# EAGLE library part LTC2208 (library lstolcman_thesis)
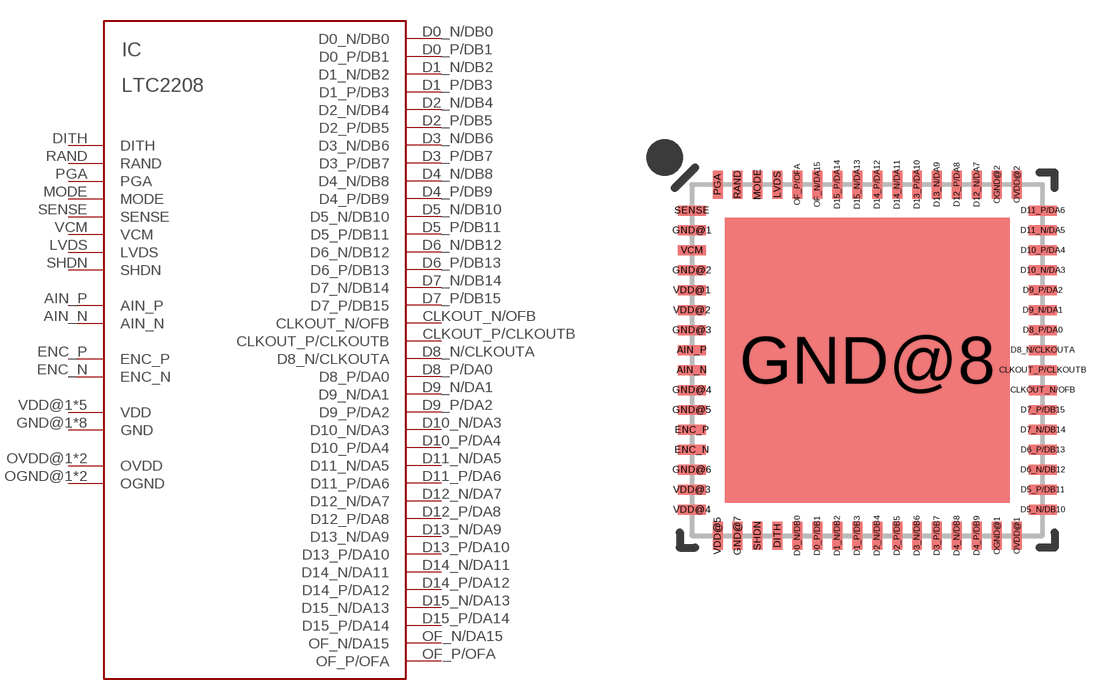
[diagram p1: symbol with the pads of QFN64; footprint QFN64]

Designator prefix IC

## LTC2208  [QFN64]
AIN_N  AIN_N
AIN_P  AIN_P
CLKOUT_N/OFB  CLKOUT_N/OFB
CLKOUT_P/CLKOUTB  CLKOUT_P/CLKOUTB
D0_N/DB0  D0_N/DB0
D0_P/DB1  D0_P/DB1
D1_N/DB2  D1_N/DB2
D1_P/DB3  D1_P/DB3
D2_N/DB4  D2_N/DB4
D2_P/DB5  D2_P/DB5
D3_N/DB6  D3_N/DB6
D3_P/DB7  D3_P/DB7
D4_N/DB8  D4_N/DB8
D4_P/DB9  D4_P/DB9
D5_N/DB10  D5_N/DB10
D5_P/DB11  D5_P/DB11
D6_N/DB12  D6_N/DB12
D6_P/DB13  D6_P/DB13
D7_N/DB14  D7_N/DB14
D7_P/DB15  D7_P/DB15
D8_N/CLKOUTA  D8_N/CLKOUTA
D8_P/DA0  D8_P/DA0
D9_N/DA1  D9_N/DA1
D9_P/DA2  D9_P/DA2
D10_N/DA3  D10_N/DA3
D10_P/DA4  D10_P/DA4
D11_N/DA5  D11_N/DA5
D11_P/DA6  D11_P/DA6
D12_N/DA7  D12_N/DA7
D12_P/DA8  D12_P/DA8
D13_N/DA9  D13_N/DA9
D13_P/DA10  D13_P/DA10
D14_N/DA11  D14_N/DA11
D14_P/DA12  D14_P/DA12
D15_N/DA13  D15_N/DA13
D15_P/DA14  D15_P/DA14
DITH  DITH
ENC_N  ENC_N
ENC_P  ENC_P
GND@1  GND  pwr
GND@2  GND  pwr
GND@3  GND  pwr
GND@4  GND  pwr
GND@5  GND  pwr
GND@6  GND  pwr
GND@7  GND  pwr
GND@8  GND  pwr
LVDS  LVDS
MODE  MODE
OF_N/DA15  OF_N/DA15
OF_P/OFA  OF_P/OFA
OGND@1  OGND  pwr
OGND@2  OGND  pwr
OVDD@1  OVDD  pwr
OVDD@2  OVDD  pwr
PGA  PGA
RAND  RAND
SENSE  SENSE
SHDN  SHDN
VCM  VCM  pwr
VDD@1  VDD  pwr
VDD@2  VDD  pwr
VDD@3  VDD  pwr
VDD@4  VDD  pwr
VDD@5  VDD  pwr

## Footprint QFN64 (pad centres in mm)
UP Package 64-Lead Plastic QFN (9mm × 9mm) (Reference LTC DWG # 05-08-1705 Rev C) http://www.linear.com/docs/38765
smd 0.7 x 0.25: AIN_N -4.4,-0.25; AIN_P -4.4,0.25; CLKOUT_N/OFB 4.4,-0.75; CLKOUT_P/CLKOUTB 4.4,-0.25; D5_N/DB10 4.4,-3.75; D5_P/DB11 4.4,-3.25; D6_N/DB12 4.4,-2.75; D6_P/DB13 4.4,-2.25; D7_N/DB14 4.4,-1.75; D7_P/DB15 4.4,-1.25; D8_N/CLKOUTA 4.4,0.25; D8_P/DA0 4.4,0.75; D9_N/DA1 4.4,1.25; D9_P/DA2 4.4,1.75; D10_N/DA3 4.4,2.25; D10_P/DA4 4.4,2.75; D11_N/DA5 4.4,3.25; D11_P/DA6 4.4,3.75; ENC_N -4.4,-2.25; ENC_P -4.4,-1.75; GND@1 -4.4,3.25; GND@2 -4.4,2.25; GND@3 -4.4,0.75; GND@4 -4.4,-0.75; GND@5 -4.4,-1.25; GND@6 -4.4,-2.75; SENSE -4.4,3.75; VCM -4.4,2.75; VDD@1 -4.4,1.75; VDD@2 -4.4,1.25; VDD@3 -4.4,-3.25; VDD@4 -4.4,-3.75
smd 0.25 x 0.7: D0_N/DB0 -1.75,-4.4; D0_P/DB1 -1.25,-4.4; D1_N/DB2 -0.75,-4.4; D1_P/DB3 -0.25,-4.4; D2_N/DB4 0.25,-4.4; D2_P/DB5 0.75,-4.4; D3_N/DB6 1.25,-4.4; D3_P/DB7 1.75,-4.4; D4_N/DB8 2.25,-4.4; D4_P/DB9 2.75,-4.4; D12_N/DA7 2.75,4.4; D12_P/DA8 2.25,4.4; D13_N/DA9 1.75,4.4; D13_P/DA10 1.25,4.4; D14_N/DA11 0.75,4.4; D14_P/DA12 0.25,4.4; D15_N/DA13 -0.25,4.4; D15_P/DA14 -0.75,4.4; DITH -2.25,-4.4; GND@7 -3.25,-4.4; LVDS -2.25,4.4; MODE -2.75,4.4; OF_N/DA15 -1.25,4.4; OF_P/OFA -1.75,4.4; OGND@1 3.25,-4.4; OGND@2 3.25,4.4; OVDD@1 3.75,-4.4; OVDD@2 3.75,4.4; PGA -3.75,4.4; RAND -3.25,4.4; SHDN -2.75,-4.4; VDD@5 -3.75,-4.4
smd 7.15 x 7.15: GND@8 0,0